# Altium schematic symbol library Res PTH.SchLib: 3 symbols
Pins are listed as number, name and electrical type; pins without a type are passive.

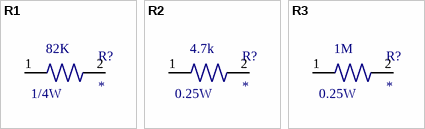
[diagram p0: symbols R1 to R3]

## R1
designator R?  Power Rating: 1/4W  Resistance: 82K
82 kOhms ±5% 0.25W, 1/4W Through Hole Resistor Axial Flame Retardant Coating, Safety Carbon Film; Manufacturer: Stackpole Electronics Inc; Manufacturer PN: CF14JT82K0; ComponentLink1Description: Datasheet; ComponentLink1URL: https://www.seielect.com/catalog/sei-cf_cfm.pdf; Digi-Key PN: CF14JT82K0TR-ND
footprint R1 (82 kOhms ±5% 0.25W, 1/4W Through Hole Resistor Axial Flame Retardant Coating, Safety Carbon Film)
pins: 1, 2

## R2
designator R?  Power Rating: 0.25W  Resistance: 4.7k
4.7 kOhms ±5% 0.25W, 1/4W Through Hole Resistor Axial Flame Retardant Coating, Safety Carbon Film; Manufacturer: Stackpole Electronics Inc; Manufacturer PN: CF14JT4K70; ComponentLink1Description: Datasheet; ComponentLink1URL: https://www.seielect.com/catalog/sei-cf_cfm.pdf; Digi-Key PN: CF14JT4K70CT-ND
footprint R2 (4.7 kOhms ±5% 0.25W, 1/4W Through Hole Resistor Axial Flame Retardant Coating, Safety Carbon Film)
pins: 1, 2

## R3
designator R?  Power Rating: 0.25W  Resistance: 1M
1 MOhms ±5% 0.25W, 1/4W Through Hole Resistor Axial Flame Retardant Coating, Safety Carbon Film; Manufacturer: Stackpole Electronics Inc; Manufacturer PN: CF14JT1M00; ComponentLink1Description: Datasheet; ComponentLink1URL: https://www.seielect.com/catalog/sei-cf_cfm.pdf; Digi-Key PN: CF14JT1M00TR-ND
footprint R3 (1 MOhms ±5% 0.25W, 1/4W Through Hole Resistor Axial Flame Retardant Coating, Safety Carbon Film)
pins: 1, 2